# EAGLE library part TCMT4100 (library PP_DigitalIC)
Manufacturer Part #: TCMT4100 Manufacturer: Vishay Semiconductors Description: Transistor Output Optocouplers Phototransistor Out Quad CTR 50-600%
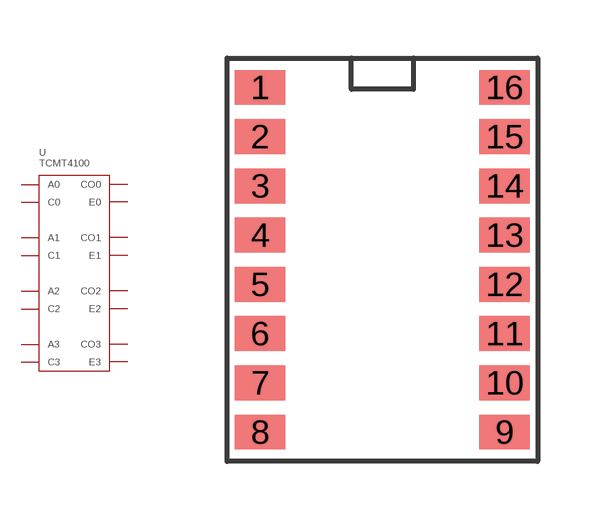
[diagram p9: symbol with the pads of TCMT4100_SOP-16; footprint TCMT4100_SOP-16]

Designator prefix U

## TCMT4100  [TCMT4100_SOP-16]
1  A0
2  C0
3  A1
4  C1
5  A2
6  C2
7  A3
8  C3
9  E3
10  CO3
11  E2
12  CO2
13  E1
14  CO1
15  E0
16  CO0

## Footprint TCMT4100_SOP-16 (pad centres in mm)
smd 1.3 x 0.9: 1 -3.15,4.445; 2 -3.15,3.175; 3 -3.15,1.905; 4 -3.15,0.635; 5 -3.15,-0.635; 6 -3.15,-1.905; 7 -3.15,-3.175; 8 -3.15,-4.445; 9 3.15,-4.445; 10 3.15,-3.175; 11 3.15,-1.905; 12 3.15,-0.635; 13 3.15,0.635; 14 3.15,1.905; 15 3.15,3.175; 16 3.15,4.445